# Altium integrated library Microcircuits.IntLib: 13 symbols
Pins are listed as number, name and electrical type; pins without a type are passive.

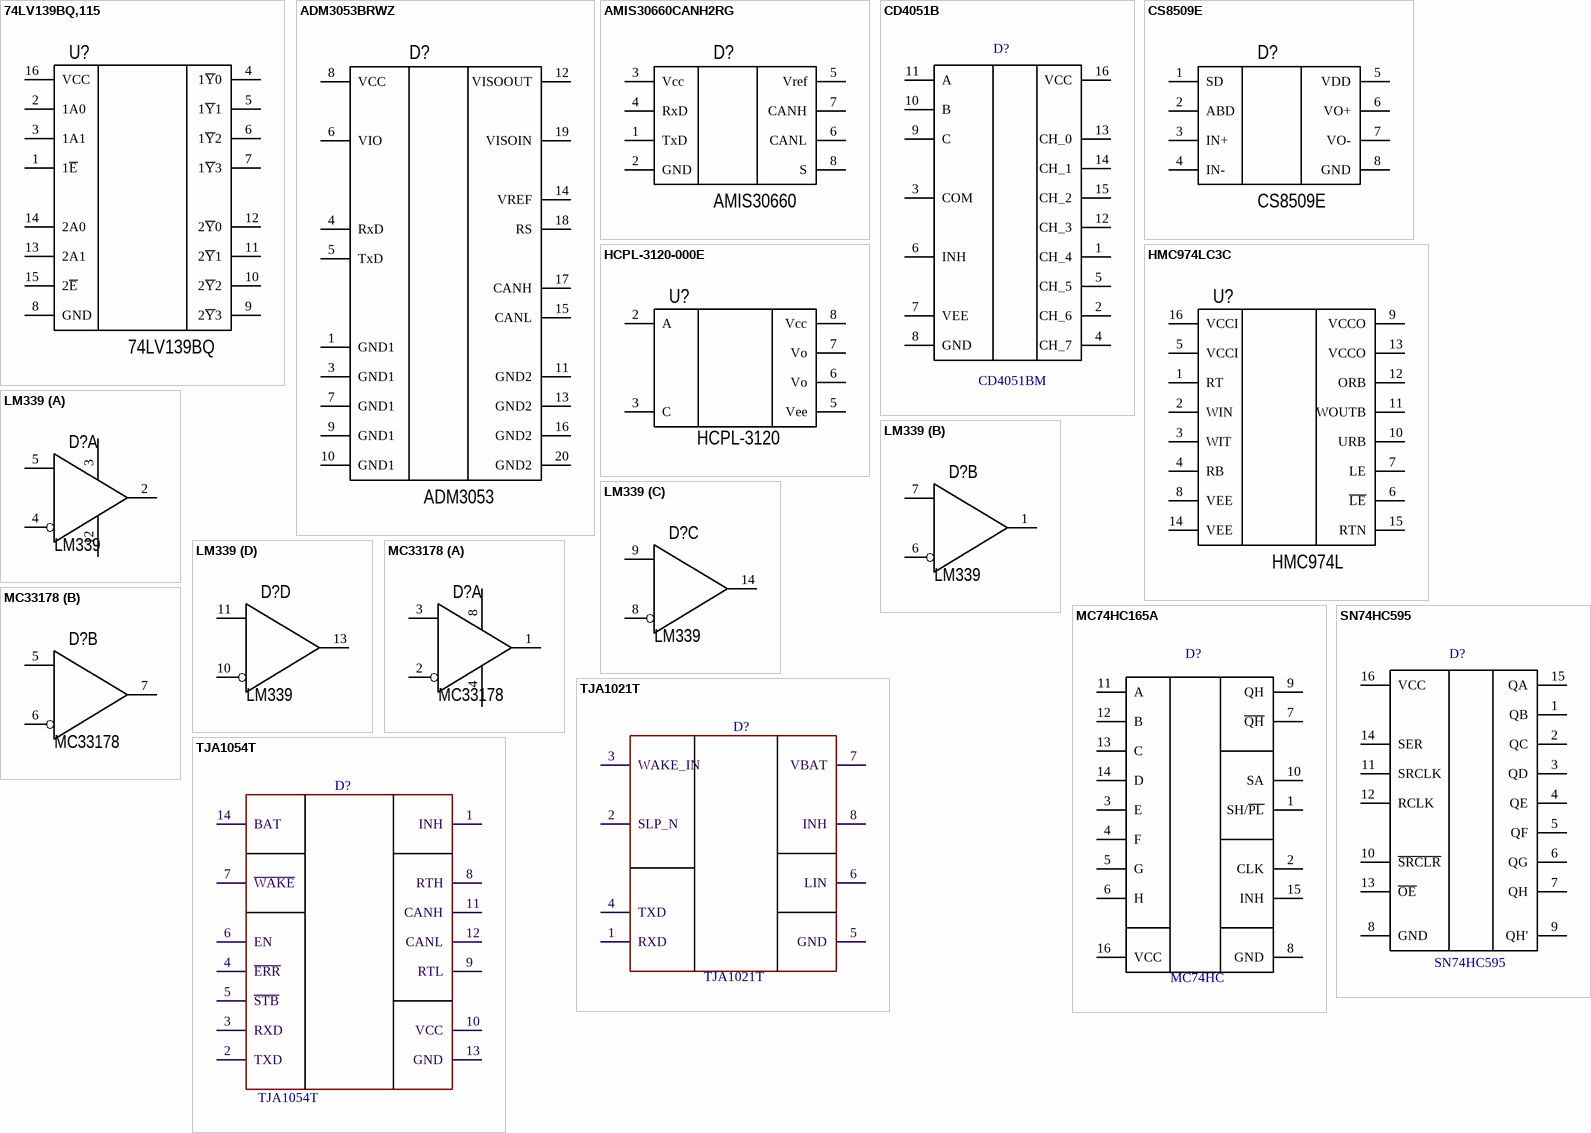
[diagram p0: symbols 74LV139BQ,115 to TJA1054T]

## 74LV139BQ,115
designator U?, comment 74LV139BQ
Decoder/Demultiplexer 1 x 2:4 16-DHVQFN (2.5x3.5); Manufacture: NXP USA Inc.; Model: 74LV139BQ,115; Name: Демультиплексор; Case: 16-DHVQFN; HelpURL: https://www.digikey.com/en/products/detail/nxp-usa-inc/74LV139BQ-115/1966030; Value: 74LV139BQ
footprint 16-DHVQFN
pins: 1 1~{E}, 2 1A0, 3 1A1, 4 1~{Y}0, 5 1~{Y}1, 6 1~{Y}2, 7 1~{Y}3, 8 GND, 9 2~{Y}3, 10 2~{Y}2, 11 2~{Y}1, 12 2~{Y}0, 13 2A1, 14 2A0, 15 2~{E}, 16 VCC

## ADM3053BRWZ
designator D?, comment ADM3053
1/1 Transceiver, Isolated - CAN 20-SOIC; Manufacture: Analog Devices Inc.; Model: ADM3053BRWZ; Name: CAN трансивер; Case: 20-SOIC; HelpURL: https://www.digikey.com/en/products/detail/analog-devices-inc/ADM3053BRWZ/2709332; Value: ADM3053
footprint 20-SOIC (0.295", 7.50mm Width)
pins: 1 GND1, 3 GND1, 4 RxD, 5 TxD, 6 VIO, 7 GND1, 8 VCC, 9 GND1, 10 GND1, 11 GND2, 12 VISOOUT, 13 GND2, 14 VREF, 15 CANL, 16 GND2, 17 CANH, 18 RS, 19 VISOIN, 20 GND2

## AMIS30660CANH2RG
designator D?, comment AMIS30660
CAN transceiver; Manufacture: ON Semiconductor; Name: CAN трансивер; Case: SOIC-8; HelpURL: https://www.digikey.com/en/products/detail/on-semiconductor/AMIS30660CANH2RG/1914826; Value: AMIS30660; Model: AMIS30660
footprint 8-SOIC (0.154", 3.90mm Width) (SOIC, 8-Leads, Body 4,90x3,90mm, Pitch 1,27mm, IPC Medium Density)
pins: 1 TxD, 2 GND, 3 Vcc, 4 RxD, 5 Vref, 6 CANL, 7 CANH, 8 S

## CD4051B
designator D?, comment CD4051BM
IC MUX/DEMUX 8X1 16SOIC; Manufacture: Texas Instruments; Name: Микросхема; Case: =Footprint; HelpURL: https://www.digikey.com/en/products/detail/texas-instruments/CD4051BM/13492371; Model: CD4051BM; Value: CD4051BM
footprint 16-TSSOP (PW) (PW0016A)
footprint 16-SOIC (D) (D (R-PDSO-G16))
footprint 16-SO (NS) (NS (R-PDSO-G16))
footprint 16-PDIP (N) (N (R-PDIP-T16))
footprint 16-CDIP (J) (N (R-PDIP-T16))
pins: 1 CH_4, 2 CH_6, 3 COM, 4 CH_7, 5 CH_5, 6 INH, 7 VEE, 8 GND, 9 C, 10 B, 11 A, 12 CH_3, 13 CH_0, 14 CH_1, 15 CH_2, 16 VCC

## CS8509E
designator D?
CAN transceiver; Name: Аудио усилитель; Case: SOIC-8; HelpURL: http://www.szczkjgs.com/UploadFiles/fujian/3783/CS8509.pdf; Value: CS8509E; Model: CS8509E
footprint 8-SOIC (0.154", 3.90mm Width) (SOIC, 8-Leads, Body 4,90x3,90mm, Pitch 1,27mm, IPC Medium Density)
pins: 1 SD, 2 ABD, 3 IN+, 4 IN-, 5 VDD, 6 VO+, 7 VO-, 8 GND

## HCPL-3120-000E
designator U?, comment HCPL-3120
Optocoupler; Manufacture: Broadcom Limited; Model: HCPL-3120-000E; Name: Оптопара; Case: DIP-8; HelpURL: https://www.digikey.com/en/products/detail/broadcom-limited/HCPL-3120-000E/669903?s=N4IgTCBcDaIBYGMAOAbAzARjABgLTYIFMQBdAXyA; Value: HCPL-3120
footprint 8-DIP (0.300", 7.62mm)
pins: 2 A, 3 C, 5 Vee, 6 Vo, 7 Vo, 8 Vcc

## HMC974LC3C
designator U?, comment HMC974L
Comparator Window - 16-SMT (3x3); Manufacture: Analog Devices Inc.; Model: HMC974LC3C; Name: Компаратор; Case: 16-SMT (3x3); HelpURL: https://www.digikey.com/en/products/detail/analog-devices-inc/HMC974LC3C/4476171; Value: HMC974L
footprint 16-SMT (3x3)
pins: 1 RT, 2 WIN, 3 WIT, 4 RB, 5 VCCI, 6 ~{LE}, 7 LE, 8 VEE, 9 VCCO, 10 URB, 11 WOUTB, 12 ORB, 13 VCCO, 14 VEE, 15 RTN, 16 VCCI

## LM339
designator D?
Comparator; Name: Компаратор; Case: *; HelpURL: *; Manufacture: *; Model: LM339; Value: LM339
footprint 14-SO
part A pins: 2 OUT1, 3 +Vcc, 4 IN1, 5 IN1, 12 -Vcc
part B pins: 1 OUT2, 6 IN2, 7 IN2
part C pins: 8 IN3, 9 IN3, 14 OUT3
part D pins: 10 IN4, 11 IN4, 13 OUT4

## MC74HC165A
designator D?, comment MC74HC
Manufacture: ON Semiconductor; Model: MC74HC165A; Name: Микросхема; Case: TSSOP-16; HelpURL: https://www.digikey.com/product-detail/en/on-semiconductor/MC74HC165ADTR2G/MC74HC165ADTR2GOSTR-ND/1479889; Value: MC74HC
footprint 16-TSSOP
pins: 1 SH/~{PL}, 2 CLK, 3 E, 4 F, 5 G, 6 H, 7 ~{QH}, 8 GND, 9 QH, 10 SA, 11 A, 12 B, 13 C, 14 D, 15 INH, 16 VCC

## MC33178
designator D?
IC OPAMP GP 2 CIRCUIT 8SOIC; Manufacture: onsemi; Model: MC33178DR2G; Name: Операционный усилитель; Case: SOIC-8; HelpURL: https://www.digikey.com/en/products/detail/onsemi/MC33178DR2G/919026?s=N4IgTCBcDaILIGEDMSCMB2AHAEQEpgHEQBdAXyA; Value: MC33178
footprint 8-SOIC (0.154", 3.90mm Width) (SOIC, 8-Leads, Body 4,90x3,90mm, Pitch 1,27mm, IPC Medium Density)
part A pins: 1 OUT1, 2 IN1, 3 IN1, 4 -Vcc, 8 +Vcc
part B pins: 5 IN2, 6 IN2, 7 OUT2

## SN74HC595
designator D?
Shift Shift Register 1 Element 8 Bit 16-SSOP; Manufacture: ON Semiconductor; Model: SN74HC595ADB; Name: Микросхема; Case: =Footprint; HelpURL: https://www.digikey.com/en/products/filter/logic-shift-registers/712?s=N4IgTCBcDaIMoDkDsAWAEgYQKwE4sgF0AaEfSUABygEYSKrJqAGJgX1aA; Value: SN74HC595
footprint 16-TSSOP (PW)
footprint 16-SOIC (D) (D (R-PDSO-G16))
footprint 16-SOIC (DW) (D (R-PDSO-G16))
footprint 16-SSOP (DB) (DB (R-PDSO-G16))
footprint 16-SO (NS) (NS (R-PDSO-G16))
footprint 16-PDIP (N) (N (R-PDIP-T16))
pins: 1 QB, 2 QC, 3 QD, 4 QE, 5 QF, 6 QG, 7 QH, 8 GND, 9 QH', 10 ~{SRCLR}, 11 SRCLK, 12 RCLK, 13 ~{OE}, 14 SER, 15 QA, 16 VCC

## TJA1021T
designator D?
LIN transceiver; Manufacture: NXP USA Inc.; Model: TJA1021T/10/C,118; Name: LIN трансивер; Case: 8-SOIC (0.154", 3.90mm Width); HelpURL: https://www.digikey.com/product-detail/en/nxp-usa-inc/TJA1021T-10-C118/568-4643-2-ND/1973465; Value: TJA1021T
footprint 8-SOIC (0.154", 3.90mm Width) (SOIC, 8-Leads, Body 4,90x3,90mm, Pitch 1,27mm, IPC Medium Density)
pins: 1 RXD "Вход", 2 SLP_N "Вход", 3 WAKE_IN "Вход", 4 TXD "Вход", 5 GND "Вход", 6 LIN "Вход", 7 VBAT "Вход", 8 INH "Вход"

## TJA1054T
designator D?
CAN transceiver; Manufacture: NXP USA Inc.; Model: TJA1054T/N1M518-ND; Name: CAN трансивер; Case: 14-SOIC (0.154", 3.90mm Width); HelpURL: https://www.digikey.com/product-detail/en/nxp-usa-inc/TJA1054T-N1M518/TJA1054T-N1M518-ND/4058802; Value: TJA1054T
footprint 14-SOIC (0.154", 3.90mm Width) - duplicate (SOIC, 14-Leads, Body 8,65x3,90mm, Pitch 1,27mm, IPC Medium Density)
pins: 1 INH "Вход", 2 TXD "Вход", 3 RXD "Вход", 4 ~{ERR} "Вход", 5 ~{STB} "Вход", 6 EN "Вход", 7 ~{WAKE} "Вход", 8 RTH "Вход", 9 RTL "Вход", 10 VCC "Вход", 11 CANH "Вход", 12 CANL "Вход", 13 GND "Вход", 14 BAT "Вход"